# EAGLE library part TPS6204X (library diode-20CJQ030)
Ti's TPS6204x 1.2 A/1.25 MHz, HIGH-EFFICIENCY STEP-DOWN CONVERTER Description: The TPS6204x family of devices are high efficiency synchronous step-down dc-dc converters optimized for battery powered portable applications. The devices are ideal for portable applications powered by a single Li-Ion battery cell or by 3-cell NiMH/NiCd batteries. With an output voltage range from 6.0 V down to 0.7 V, the devices support low voltage DSPs and processors in PDAs, pocket PCs, as well as notebooks and subnotebook computers. The TPS6204x operates at a fixed switching frequency of 1.25 MHz and enters the power save mode operation at light load currents to maintain high efficiency over the entire load current range. For low noise applications, the devices can be forced into fixed frequency PWM mode by pulling the MODE pin high. The TPS6204x supports up to 1.2-A load current. Features: Up to 95% Conversion Efficiency Typical Quiescent Current: 18 µA Load Current: 1.2 A Operating Input Voltage Range: 2.5 V to 6.0 V Switching Frequency: 1.25 MHz Adjustable and Fixed Output Voltage Power Save Mode Operation at Light load Currents 100% Duty Cycle for Lowest Dropout Internal Softstart Dynamic Output Voltage Positioning Thermal Shutdown Short-Circuit Protection 10 Pin MSOP PowerPad? Package 10 Pin QFN 3 X 3 mm Package Applications: PDA, Pocket PC and Smart Phones USB Powered Modems CPUs and DSPs PC Cards and Notebooks xDSL Applications Standard 5-V to 3.3-V Conversion Please send any comments to: messi@users.sourceforge.net
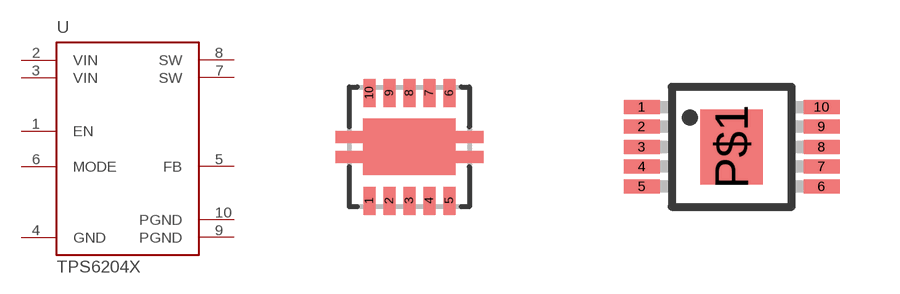
[diagram p169: symbol with the pads of QFN10; footprints QFN10, MSOP-10]

Designator prefix U

## TPS6204X-DRC  [QFN10]
1  EN  in
2  VIN  pwr
3  VIN  pwr
4  GND  pwr
5  FB
6  MODE  in
7  SW
8  SW
9  PGND  pwr
10  PGND  pwr

## TPS6204X-DGQ  [MSOP-10]
1  EN  in
2  VIN  pwr
3  VIN  pwr
4  GND  pwr
5  PGND  pwr
6  PGND  pwr
7  FB
8  MODE  in
9  SW
10  SW

## Footprint QFN10 (pad centres in mm)
QFN10 for Ti's TPS6204x
smd 0.3 x 0.7: 1 -1,-1.35; 2 -0.5,-1.35; 3 0,-1.35; 4 0.5,-1.35; 5 1,-1.35; 6 1,1.35; 7 0.5,1.35; 8 0,1.35; 9 -0.5,1.35; 10 -1,1.35

## Footprint MSOP-10 (pad centres in mm)
Ti's MSOP-10 with PowerPAD
smd 0.9 x 0.35: 1 -2.25,1; 2 -2.25,0.51; 3 -2.25,0; 4 -2.25,-0.49; 5 -2.25,-0.99; 6 2.25,-0.99; 7 2.25,-0.49; 8 2.25,0; 9 2.25,0.51; 10 2.25,1
smd 1.57 x 1.88: P$1 0,0